# Altium schematic symbol library HBridgeLib.SchLib: 1 symbol
Pins are listed as number, name and electrical type; pins without a type are passive.

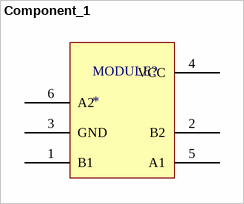
[diagram p0: symbol Component_1]

## Component_1
designator MODULE?
Modulo Doble puente H motores vibración
footprint Vibration Driver (Doble puente H para motores de vibracion)
pins: 1 B1, 2 B2, 3 GND, 4 VCC, 5 A1, 6 A2